# EAGLE library part HDSP-C3E3 (library library)
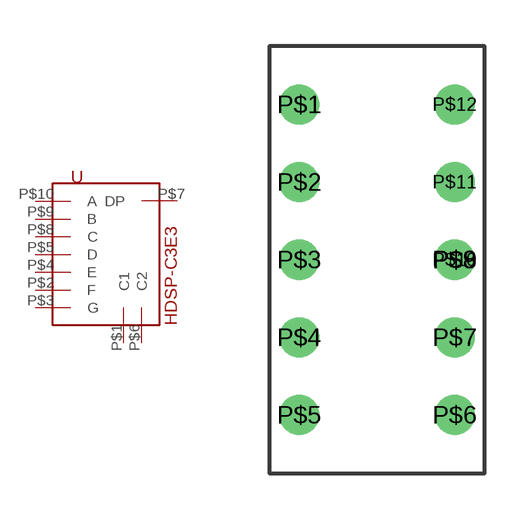
[diagram p2: symbol with the pads of HDSP-C3E3; footprint HDSP-C3E3]

Designator prefix U

## HDSP-C3E3  [HDSP-C3E3]
P$1  C1
P$2  F  in
P$3  G  in
P$4  E  in
P$5  D  in
P$6  C2
P$7  DP  in
P$8  C  in
P$9  B  in
P$10  A  in

## Footprint HDSP-C3E3 (pad centres in mm)
drill 0.8: P$1 -2.54,5.08; P$2 -2.54,2.54; P$3 -2.54,0; P$4 -2.54,-2.54; P$5 -2.54,-5.08; P$6 2.54,-5.08; P$7 2.54,-2.54; P$8 2.54,0; P$9 2.54,0; P$10 2.54,0; P$11 2.54,2.54; P$12 2.54,5.08